# Altium footprint library Jumpers.PcbLib: 22 footprints (part 1 of 2)
Each footprint in its own frame and in the unit in brackets; x right, y up, seen from the top. Pads: shape width x height; smd on the part's side, far side on the other; paste and mask are expansions set on the pad; w line width, h text height; cw(c..) or ccw(c..) is an arc to the next point about the centre after c.
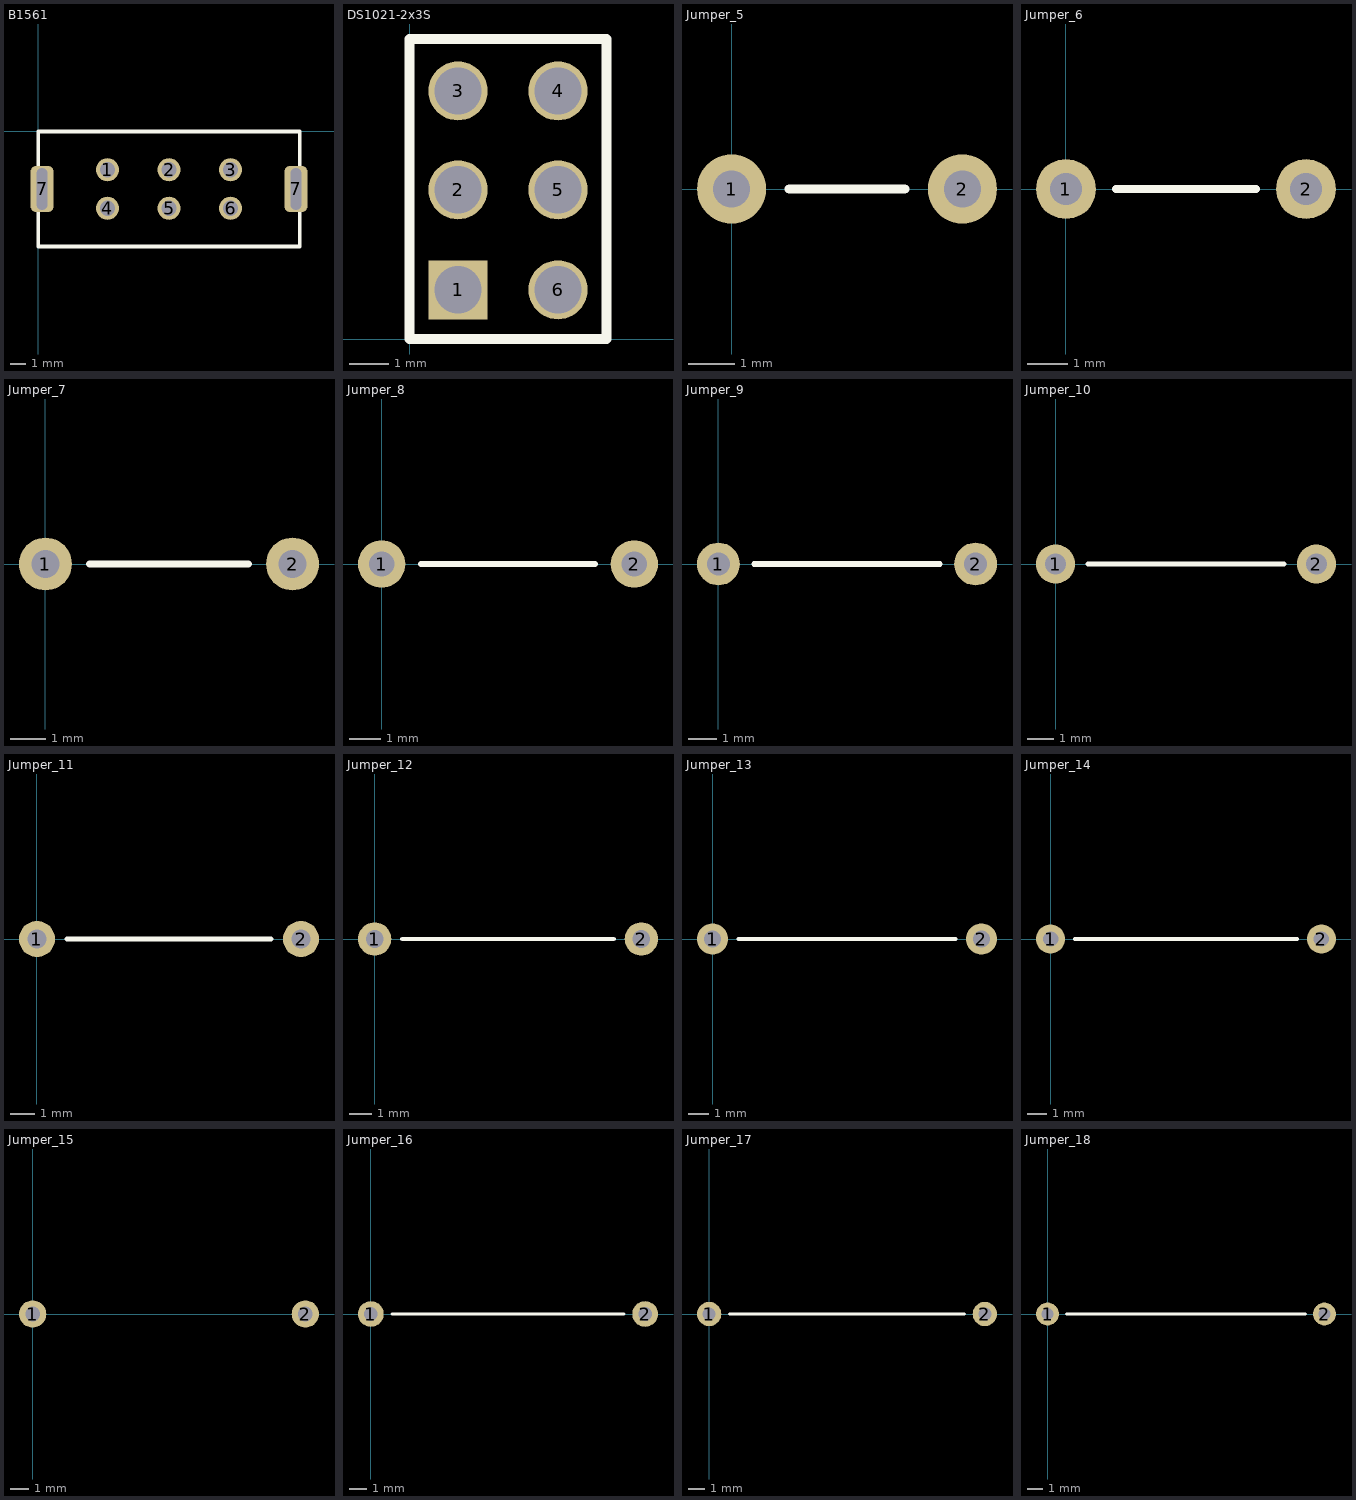
[diagram p0: the footprints below, top view; thin cyan lines are the x and y axes]

## B1561 [mm]
pads (8):
  round 1.5 hole 1: 1(4.5,-2.5) 2(8.5,-2.5) 3(12.5,-2.5) 4(4.5,-5) 5(8.5,-5) 6(12.5,-5)
  rrect50% 1.5x3 hole 2.7 slot 0.7 at 0 deg: 7(0.25,-3.75) 7(16.75,-3.75)
Top Overlay:
  lines w0.254: 0,-7.5 17,-7.5 17,0 0,0 0,-7.5
3D body "User Library-ss22f07g10-g.STEP": height 20, standoff -1.7, extent 0,-7.5 17,-0.1

## DS1021-2x3S [mm]
pads (6):
  rect 1.5x1.5 hole 1.2: 1(1.23,1.25)
  round 1.5 hole 1.2: 2(1.23,3.79) 3(1.23,6.3) 4(3.77,6.3) 5(3.77,3.79) 6(3.77,1.25)
Top Overlay:
  lines w0.254: 0,0 5,0 5,7.62 0,7.62 0,0
3D body "User Library-PLD-xx.STEP": height 8.4, standoff -3, extent 0,0 5,7.62

## Jumper_5 [mm]
height 0.5
pads (2):
  round 1.5 hole 0.8: 1(0,0) 2(5,0)
Top Overlay:
  lines w0.2: 1.25,0 3.75,0

## Jumper_6 [mm]
height 0.5
pads (2):
  round 1.5 hole 0.8: 1(0,0) 2(6,0)
Top Overlay:
  lines w0.2: 1.25,0 4.75,0

## Jumper_7 [mm]
height 0.5
pads (2):
  round 1.5 hole 0.8: 1(0,0) 2(7,0)
Top Overlay:
  lines w0.2: 1.25,0 5.75,0

## Jumper_8 [mm]
height 0.5
pads (2):
  round 1.5 hole 0.8: 1(0,0) 2(8,0)
Top Overlay:
  lines w0.2: 1.25,0 6.75,0

## Jumper_9 [mm]
height 0.5
pads (2):
  round 1.5 hole 0.8: 1(0,0) 2(9,0)
Top Overlay:
  lines w0.2: 1.25,0 7.75,0

## Jumper_10 [mm]
height 0.5
pads (2):
  round 1.5 hole 0.8: 1(0,0) 2(10,0)
Top Overlay:
  lines w0.2: 1.25,0 8.75,0

## Jumper_11 [mm]
height 0.5
pads (2):
  round 1.5 hole 0.8: 1(0,0) 2(11,0)
Top Overlay:
  lines w0.2: 1.25,0 9.75,0

## Jumper_12 [mm]
height 0.5
pads (2):
  round 1.5 hole 0.8: 1(0,0) 2(12,0)
Top Overlay:
  lines w0.2: 1.25,0 10.75,0

## Jumper_13 [mm]
height 0.5
pads (2):
  round 1.5 hole 0.8: 1(0,0) 2(13,0)
Top Overlay:
  lines w0.2: 1.25,0 11.75,0

## Jumper_14 [mm]
height 0.5
pads (2):
  round 1.5 hole 0.8: 1(0,0) 2(14,0)
Top Overlay:
  lines w0.2: 1.25,0 12.75,0

## Jumper_15 [mm]
height 0.5
pads (2):
  round 1.5 hole 0.8: 1(0,0) 2(15,0)

## Jumper_16 [mm]
height 0.5
pads (2):
  round 1.5 hole 0.8: 1(0,0) 2(16,0)
Top Overlay:
  lines w0.2: 1.25,0 14.75,0

## Jumper_17 [mm]
height 0.5
pads (2):
  round 1.5 hole 0.8: 1(0,0) 2(17,0)
Top Overlay:
  lines w0.2: 1.25,0 15.75,0

## Jumper_18 [mm]
height 0.5
pads (2):
  round 1.5 hole 0.8: 1(0,0) 2(18,0)
Top Overlay:
  lines w0.2: 1.25,0 16.75,0